# Altium schematic symbol library TI.SchLib: 4 symbols
Pins are listed as number, name and electrical type; pins without a type are passive.

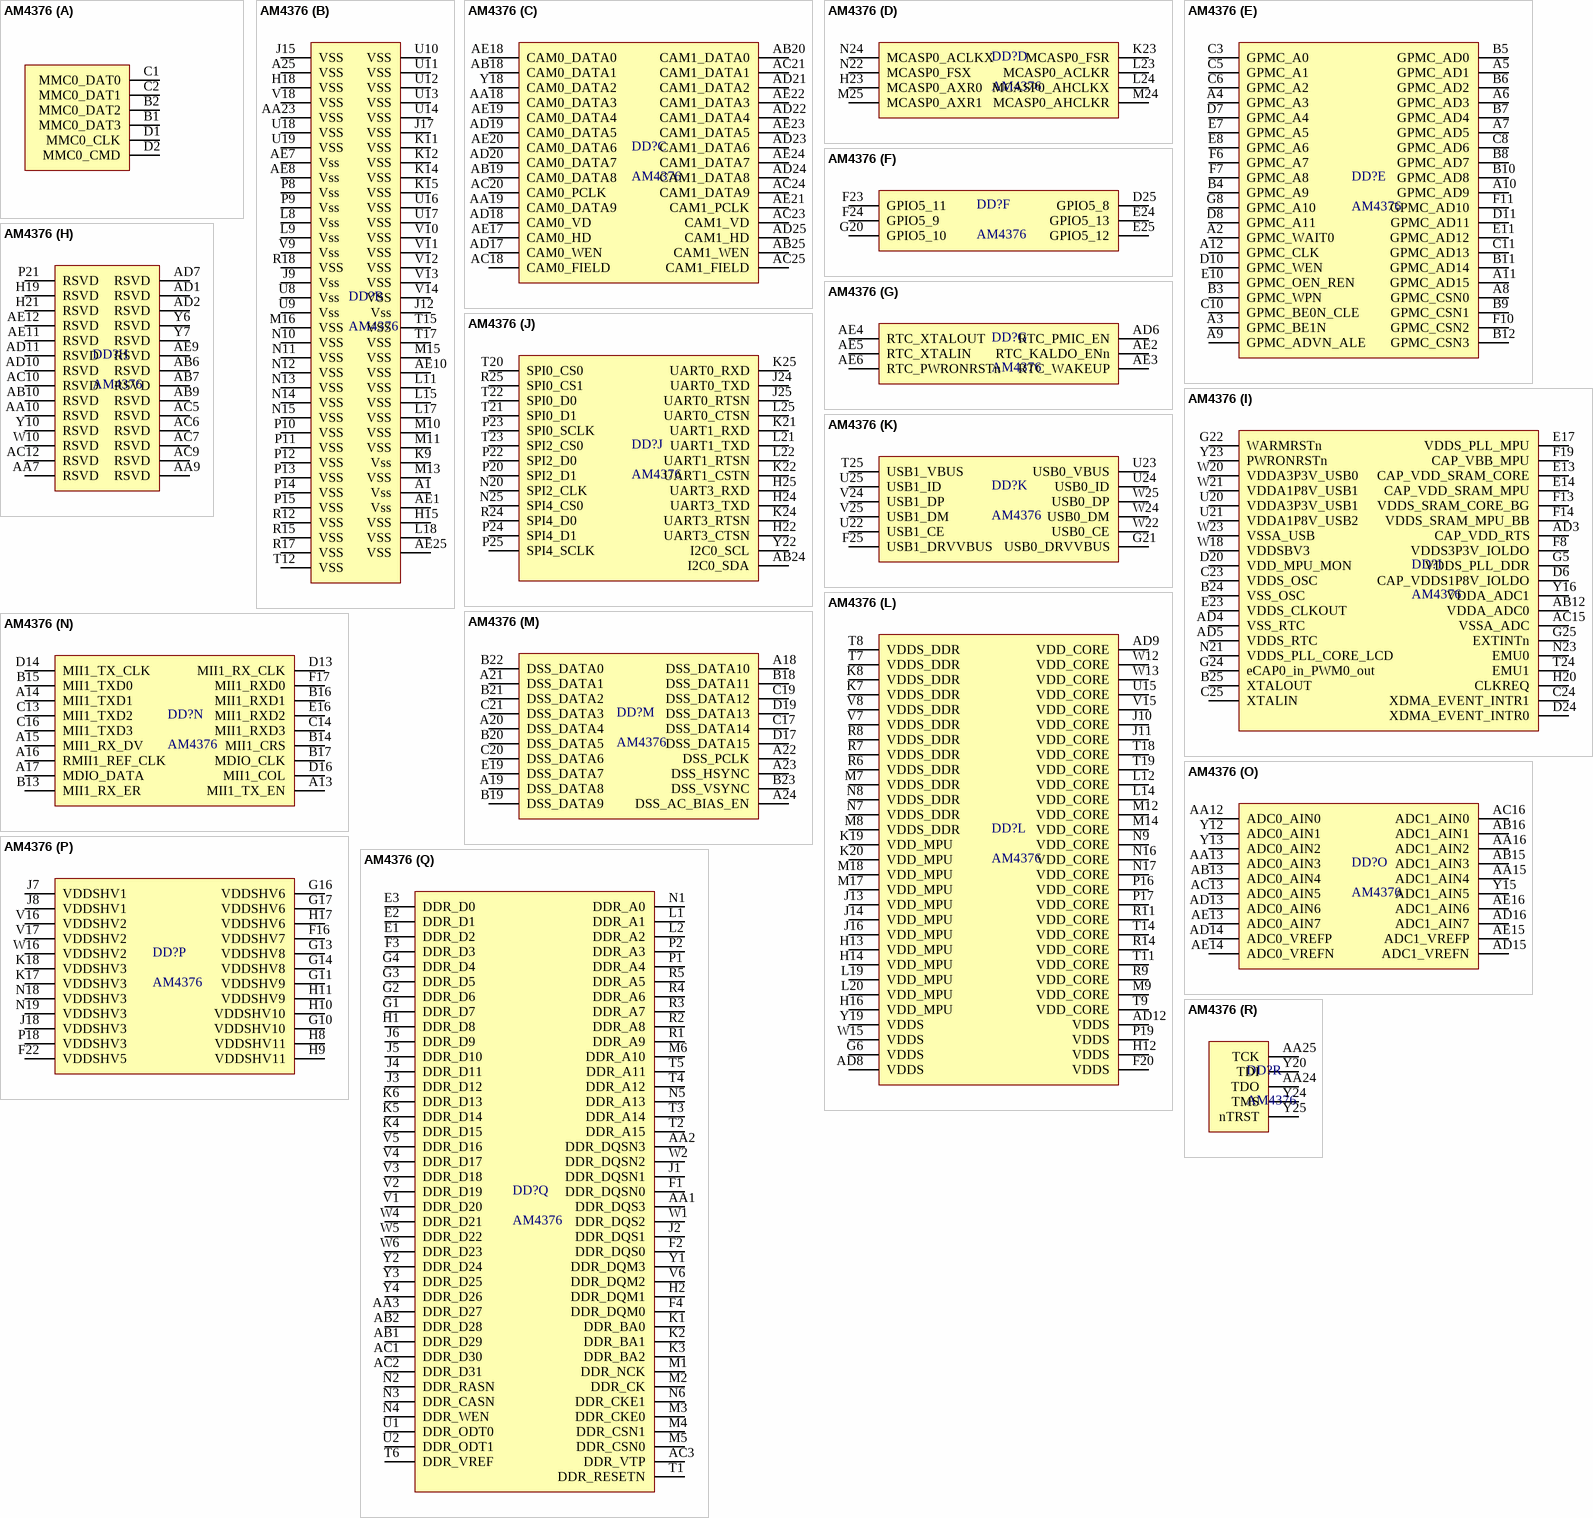
[diagram p0: symbol AM4376]

## AM4376
designator DD?
footprint BGA491
part A pins: B1 MMC0_DAT3 (power), B2 MMC0_DAT2 (power), C1 MMC0_DAT0 (power), C2 MMC0_DAT1 (power), D1 MMC0_CLK (power), D2 MMC0_CMD (power)
part B pins: A1 Vss (power), A25 VSS (power), AA23 VSS (power), AE1 Vss (power), AE7 Vss (power), AE8 Vss (power), AE10 VSS (power), AE25 VSS (power), H15 VSS (power), H18 VSS (power), J9 Vss (power), J12 Vss (power), J15 VSS (power), J17 VSS (power), K9 Vss (power), K11 VSS (power), K12 VSS (power), K14 VSS (power), K15 VSS (power), L8 Vss (power), L9 Vss (power), L11 VSS (power), L15 VSS (power), L17 VSS (power), L18 VSS (power), M10 VSS (power), M11 VSS (power), M13 VSS (power), M15 VSS (power), M16 VSS (power), N10 VSS (power), N11 VSS (power), N12 VSS (power), N13 VSS (power), N14 VSS (power), N15 VSS (power), P8 Vss (power), P9 Vss (power), P10 VSS (power), P11 VSS (power), P12 VSS (power), P13 VSS (power), P14 VSS (power), P15 VSS (power), R12 VSS (power), R15 VSS (power), R17 VSS (power), R18 VSS (power), T12 VSS (power), T15 VSS (power), T17 VSS (power), U8 Vss (power), U9 Vss (power), U10 VSS (power), U11 VSS (power), U12 VSS (power), U13 VSS (power), U14 VSS (power), U16 VSS (power), U17 VSS (power), U18 VSS (power), U19 VSS (power), V9 Vss (power), V10 VSS (power), V11 VSS (power), V12 VSS (power), V13 VSS (power), V14 VSS (power), V18 VSS (power)
part C pins: AA18 CAM0_DATA3 (power), AA19 CAM0_DATA9 (power), AB18 CAM0_DATA1 (power), AB19 CAM0_DATA8 (power), AB20 CAM1_DATA0 (power), AB25 CAM1_WEN (power), AC18 CAM0_FIELD (power), AC20 CAM0_PCLK (power), AC21 CAM1_DATA1 (power), AC23 CAM1_VD (power), AC24 CAM1_DATA9 (power), AC25 CAM1_FIELD (power), AD17 CAM0_WEN (power), AD18 CAM0_VD (power), AD19 CAM0_DATA5 (power), AD20 CAM0_DATA7 (power), AD21 CAM1_DATA2 (power), AD22 CAM1_DATA4 (power), AD23 CAM1_DATA6 (power), AD24 CAM1_DATA8 (power), AD25 CAM1_HD (power), AE17 CAM0_HD (power), AE18 CAM0_DATA0 (power), AE19 CAM0_DATA4 (power), AE20 CAM0_DATA6 (power), AE21 CAM1_PCLK (power), AE22 CAM1_DATA3 (power), AE23 CAM1_DATA5 (power), AE24 CAM1_DATA7 (power), Y18 CAM0_DATA2 (power)
part D pins: H23 MCASP0_AXR0 (power), K23 MCASP0_FSR (power), L23 MCASP0_ACLKR (power), L24 MCASP0_AHCLKX (power), M24 MCASP0_AHCLKR (power), M25 MCASP0_AXR1 (power), N22 MCASP0_FSX (power), N24 MCASP0_ACLKX (power)
part E pins: A2 GPMC_WAIT0 (power), A3 GPMC_BE1N (power), A4 GPMC_A3 (power), A5 GPMC_AD1 (power), A6 GPMC_AD3 (power), A7 GPMC_AD5 (power), A8 GPMC_CSN0 (power), A9 GPMC_ADVN_ALE (power), A10 GPMC_AD9 (power), A11 GPMC_AD15 (power), A12 GPMC_CLK (power), B3 GPMC_WPN (power), B4 GPMC_A9 (power), B5 GPMC_AD0 (power), B6 GPMC_AD2 (power), B7 GPMC_AD4 (power), B8 GPMC_AD7 (power), B9 GPMC_CSN1 (power), B10 GPMC_AD8 (power), B11 GPMC_AD14 (power), B12 GPMC_CSN3 (power), C3 GPMC_A0 (power), C5 GPMC_A1 (power), C6 GPMC_A2 (power), C8 GPMC_AD6 (power), C10 GPMC_BE0N_CLE (power), C11 GPMC_AD13 (power), D7 GPMC_A4 (power), D8 GPMC_A11 (power), D10 GPMC_WEN (power), D11 GPMC_AD11 (power), E7 GPMC_A5 (power), E8 GPMC_A6 (power), E10 GPMC_OEN_REN (power), E11 GPMC_AD12 (power), F6 GPMC_A7 (power), F7 GPMC_A8 (power), F10 GPMC_CSN2 (power), F11 GPMC_AD10 (power), G8 GPMC_A10 (power)
part F pins: D25 GPIO5_8 (power), E24 GPIO5_13 (power), E25 GPIO5_12 (power), F23 GPIO5_11 (power), F24 GPIO5_9 (power), G20 GPIO5_10 (power)
part G pins: AD6 RTC_PMIC_EN (power), AE2 RTC_KALDO_ENn (power), AE3 RTC_WAKEUP (power), AE4 RTC_XTALOUT (power), AE5 RTC_XTALIN (power), AE6 RTC_PWRONRSTn (power)
part H pins: AA7 RSVD (power), AA9 RSVD (power), AA10 RSVD (power), AB6 RSVD (power), AB7 RSVD (power), AB9 RSVD (power), AB10 RSVD (power), AC5 RSVD (power), AC6 RSVD (power), AC7 RSVD (power), AC9 RSVD (power), AC10 RSVD (power), AC12 RSVD (power), AD1 RSVD (power), AD2 RSVD (power), AD7 RSVD (power), AD10 RSVD (power), AD11 RSVD (power), AE9 RSVD (power), AE11 RSVD (power), AE12 RSVD (power), H19 RSVD (power), H21 RSVD (power), P21 RSVD (power), W10 RSVD (power), Y6 RSVD (power), Y7 RSVD (power), Y10 RSVD (power)
part I pins: AB12 VDDA_ADC0 (power), AC15 VSSA_ADC (power), AD3 CAP_VDD_RTS (power), AD4 VSS_RTC (power), AD5 VDDS_RTC (power), B24 VSS_OSC (power), B25 XTALOUT (power), C23 VDDS_OSC (power), C24 XDMA_EVENT_INTR1 (power), C25 XTALIN (power), D6 CAP_VDDS1P8V_IOLDO (power), D20 VDD_MPU_MON (power), D24 XDMA_EVENT_INTR0 (power), E13 CAP_VDD_SRAM_CORE (power), E14 CAP_VDD_SRAM_MPU (power), E17 VDDS_PLL_MPU (power), E23 VDDS_CLKOUT (power), F8 VDDS3P3V_IOLDO (power), F13 VDDS_SRAM_CORE_BG (power), F14 VDDS_SRAM_MPU_BB (power), F19 CAP_VBB_MPU (power), G5 VDDS_PLL_DDR (power), G22 WARMRSTn (power), G24 eCAP0_in_PWM0_out (power), G25 EXTINTn (power), H20 CLKREQ (power), N21 VDDS_PLL_CORE_LCD (power), N23 EMU0 (power), T24 EMU1 (power), U20 VDDA3P3V_USB1 (power), U21 VDDA1P8V_USB2 (power), W18 VDDSBV3 (power), W20 VDDA3P3V_USB0 (power), W21 VDDA1P8V_USB1 (power), W23 VSSA_USB (power), Y16 VDDA_ADC1 (power), Y23 PWRONRSTn (power)
part J pins: AB24 I2C0_SDA (power), H22 UART3_CTSN (power), H24 UART3_TXD (power), H25 UART3_RXD (power), J24 UART0_TXD (power), J25 UART0_RTSN (power), K21 UART1_RXD (power), K22 UART1_CSTN (power), K24 UART3_RTSN (power), K25 UART0_RXD (power), L21 UART1_TXD (power), L22 UART1_RTSN (power), L25 UART0_CTSN (power), N20 SPI2_CLK (power), N25 SPI4_CS0 (power), P20 SPI2_D1 (power), P22 SPI2_D0 (power), P23 SPI0_SCLK (power), P24 SPI4_D1 (power), P25 SPI4_SCLK (power), R24 SPI4_D0 (power), R25 SPI0_CS1 (power), T20 SPI0_CS0 (power), T21 SPI0_D1 (power), T22 SPI0_D0 (power), T23 SPI2_CS0 (power), Y22 I2C0_SCL (power)
part K pins: F25 USB1_DRVVBUS (power), G21 USB0_DRVVBUS (power), T25 USB1_VBUS (power), U22 USB1_CE (power), U23 USB0_VBUS (power), U24 USB0_ID (power), U25 USB1_ID (power), V24 USB1_DP (power), V25 USB1_DM (power), W22 USB0_CE (power), W24 USB0_DM (power), W25 USB0_DP (power)
part L pins: AD8 VDDS (power), AD9 VDD_CORE (power), AD12 VDDS (power), F20 VDDS (power), G6 VDDS (power), H12 VDDS (power), H13 VDD_MPU (power), H14 VDD_MPU (power), H16 VDD_MPU (power), J10 VDD_CORE (power), J11 VDD_CORE (power), J13 VDD_MPU (power), J14 VDD_MPU (power), J16 VDD_MPU (power), K7 VDDS_DDR (power), K8 VDDS_DDR (power), K19 VDD_MPU (power), K20 VDD_MPU (power), L12 VDD_CORE (power), L14 VDD_CORE (power), L19 VDD_MPU (power), L20 VDD_MPU (power), M7 VDDS_DDR (power), M8 VDDS_DDR (power), M9 VDD_CORE (power), M12 VDD_CORE (power), M14 VDD_CORE (power), M17 VDD_MPU (power), M18 VDD_MPU (power), N7 VDDS_DDR (power), N8 VDDS_DDR (power), N9 VDD_CORE (power), N16 VDD_CORE (power), N17 VDD_CORE (power), P16 VDD_CORE (power), P17 VDD_CORE (power), P19 VDDS (power), R6 VDDS_DDR (power), R7 VDDS_DDR (power), R8 VDDS_DDR (power), R9 VDD_CORE (power), R11 VDD_CORE (power), R14 VDD_CORE (power), T7 VDDS_DDR (power), T8 VDDS_DDR (power), T9 VDD_CORE (power), T11 VDD_CORE (power), T14 VDD_CORE (power), T18 VDD_CORE (power), T19 VDD_CORE (power), U15 VDD_CORE (power), V7 VDDS_DDR (power), V8 VDDS_DDR (power), V15 VDD_CORE (power), W12 VDD_CORE (power), W13 VDD_CORE (power), W15 VDDS (power), Y19 VDDS (power)
part M pins: A18 DSS_DATA10 (power), A19 DSS_DATA8 (power), A20 DSS_DATA4 (power), A21 DSS_DATA1 (power), A22 DSS_PCLK (power), A23 DSS_HSYNC (power), A24 DSS_AC_BIAS_EN (power), B18 DSS_DATA11 (power), B19 DSS_DATA9 (power), B20 DSS_DATA5 (power), B21 DSS_DATA2 (power), B22 DSS_DATA0 (power), B23 DSS_VSYNC (power), C17 DSS_DATA14 (power), C19 DSS_DATA12 (power), C20 DSS_DATA6 (power), C21 DSS_DATA3 (power), D17 DSS_DATA15 (power), D19 DSS_DATA13 (power), E19 DSS_DATA7 (power)
part N pins: A13 MII1_TX_EN (power), A14 MII1_TXD1 (power), A15 MII1_RX_DV (power), A16 RMII1_REF_CLK (power), A17 MDIO_DATA (power), B13 MII1_RX_ER (power), B14 MII1_CRS (power), B15 MII1_TXD0 (power), B16 MII1_RXD1 (power), B17 MDIO_CLK (power), C13 MII1_TXD2 (power), C14 MII1_RXD3 (power), C16 MII1_TXD3 (power), D13 MII1_RX_CLK (power), D14 MII1_TX_CLK (power), D16 MII1_COL (power), E16 MII1_RXD2 (power), F17 MII1_RXD0 (power)
part O pins: AA12 ADC0_AIN0 (power), AA13 ADC0_AIN3 (power), AA15 ADC1_AIN4 (power), AA16 ADC1_AIN2 (power), AB13 ADC0_AIN4 (power), AB15 ADC1_AIN3 (power), AB16 ADC1_AIN1 (power), AC13 ADC0_AIN5 (power), AC16 ADC1_AIN0 (power), AD13 ADC0_AIN6 (power), AD14 ADC0_VREFP (power), AD15 ADC1_VREFN (power), AD16 ADC1_AIN7 (power), AE13 ADC0_AIN7 (power), AE14 ADC0_VREFN (power), AE15 ADC1_VREFP (power), AE16 ADC1_AIN6 (power), Y12 ADC0_AIN1 (power), Y13 ADC0_AIN2 (power), Y15 ADC1_AIN5 (power)
part P pins: F16 VDDSHV7 (power), F22 VDDSHV5 (power), G10 VDDSHV10 (power), G11 VDDSHV9 (power), G13 VDDSHV8 (power), G14 VDDSHV8 (power), G16 VDDSHV6 (power), G17 VDDSHV6 (power), H8 VDDSHV11 (power), H9 VDDSHV11 (power), H10 VDDSHV10 (power), H11 VDDSHV9 (power), H17 VDDSHV6 (power), J7 VDDSHV1 (power), J8 VDDSHV1 (power), J18 VDDSHV3 (power), K17 VDDSHV3 (power), K18 VDDSHV3 (power), N18 VDDSHV3 (power), N19 VDDSHV3 (power), P18 VDDSHV3 (power), V16 VDDSHV2 (power), V17 VDDSHV2 (power), W16 VDDSHV2 (power)
part Q pins: AA1 DDR_DQS3 (power), AA2 DDR_DQSN3 (power), AA3 DDR_D27 (power), AB1 DDR_D29 (power), AB2 DDR_D28 (power), AC1 DDR_D30 (power), AC2 DDR_D31 (power), AC3 DDR_VTP (power), E1 DDR_D2 (power), E2 DDR_D1 (power), E3 DDR_D0 (power), F1 DDR_DQSN0 (power), F2 DDR_DQS0 (power), F3 DDR_D3 (power), F4 DDR_DQM0 (power), G1 DDR_D7 (power), G2 DDR_D6 (power), G3 DDR_D5 (power), G4 DDR_D4 (power), H1 DDR_D8 (power), H2 DDR_DQM1 (power), J1 DDR_DQSN1 (power), J2 DDR_DQS1 (power), J3 DDR_D12 (power), J4 DDR_D11 (power), J5 DDR_D10 (power), J6 DDR_D9 (power), K1 DDR_BA0 (power), K2 DDR_BA1 (power), K3 DDR_BA2 (power), K4 DDR_D15 (power), K5 DDR_D14 (power), K6 DDR_D13 (power), L1 DDR_A1 (power), L2 DDR_A2 (power), M1 DDR_NCK (power), M2 DDR_CK (power), M3 DDR_CKE0 (power), M4 DDR_CSN1 (power), M5 DDR_CSN0 (power), M6 DDR_A10 (power), N1 DDR_A0 (power), N2 DDR_RASN (power), N3 DDR_CASN (power), N4 DDR_WEN (power), N5 DDR_A13 (power), N6 DDR_CKE1 (power), P1 DDR_A4 (power), P2 DDR_A3 (power), R1 DDR_A9 (power), R2 DDR_A8 (power), R3 DDR_A7 (power), R4 DDR_A6 (power), R5 DDR_A5 (power), T1 DDR_RESETN (power), T2 DDR_A15 (power), T3 DDR_A14 (power), T4 DDR_A12 (power), T5 DDR_A11 (power), T6 DDR_VREF (power), U1 DDR_ODT0 (power), U2 DDR_ODT1 (power), V1 DDR_D20 (power), V2 DDR_D19 (power), V3 DDR_D18 (power), V4 DDR_D17 (power), V5 DDR_D16 (power), V6 DDR_DQM2 (power), W1 DDR_DQS2 (power), W2 DDR_DQSN2 (power), W4 DDR_D21 (power), W5 DDR_D22 (power), W6 DDR_D23 (power), Y1 DDR_DQM3 (power), Y2 DDR_D24 (power), Y3 DDR_D25 (power), Y4 DDR_D26 (power)
part R pins: AA24 TDO (power), AA25 TCK (power), Y20 TDI (power), Y24 TMS (power), Y25 nTRST (power)

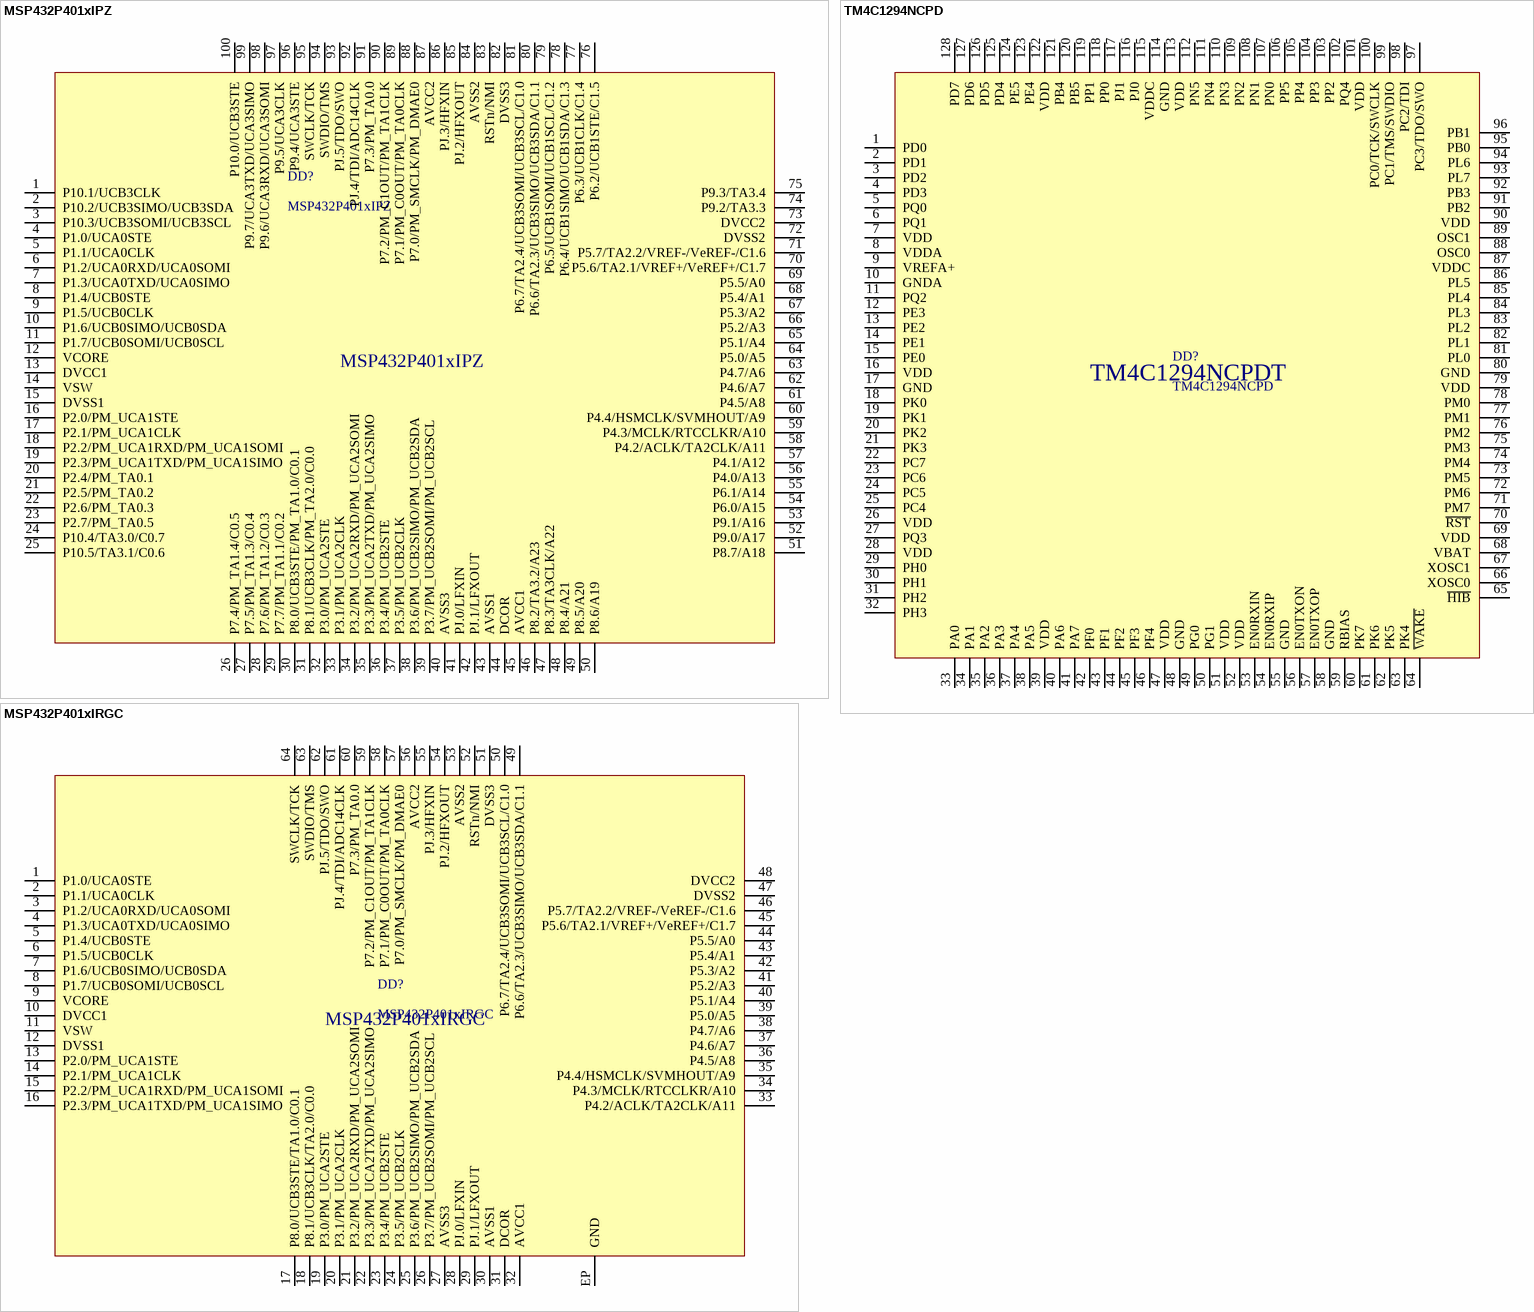
[diagram p1: symbols MSP432P401xIPZ to TM4C1294NCPD]

## MSP432P401xIPZ
designator DD?
TI Cortex-M4F MCU MSP432 family LQFP-100
footprint LQFP-100
pins: 1 P10.1/UCB3CLK, 2 P10.2/UCB3SIMO/UCB3SDA, 3 P10.3/UCB3SOMI/UCB3SCL, 4 P1.0/UCA0STE, 5 P1.1/UCA0CLK, 6 P1.2/UCA0RXD/UCA0SOMI, 7 P1.3/UCA0TXD/UCA0SIMO, 8 P1.4/UCB0STE, 9 P1.5/UCB0CLK, 10 P1.6/UCB0SIMO/UCB0SDA, 11 P1.7/UCB0SOMI/UCB0SCL, 12 VCORE, 13 DVCC1, 14 VSW, 15 DVSS1, 16 P2.0/PM_UCA1STE, 17 P2.1/PM_UCA1CLK, 18 P2.2/PM_UCA1RXD/PM_UCA1SOMI, 19 P2.3/PM_UCA1TXD/PM_UCA1SIMO, 20 P2.4/PM_TA0.1, 21 P2.5/PM_TA0.2, 22 P2.6/PM_TA0.3, 23 P2.7/PM_TA0.5, 24 P10.4/TA3.0/C0.7, 25 P10.5/TA3.1/C0.6, 26 P7.4/PM_TA1.4/C0.5, 27 P7.5/PM_TA1.3/C0.4, 28 P7.6/PM_TA1.2/C0.3, 29 P7.7/PM_TA1.1/C0.2, 30 P8.0/UCB3STE/PM_TA1.0/C0.1, 31 P8.1/UCB3CLK/PM_TA2.0/C0.0, 32 P3.0/PM_UCA2STE, 33 P3.1/PM_UCA2CLK, 34 P3.2/PM_UCA2RXD/PM_UCA2SOMI, 35 P3.3/PM_UCA2TXD/PM_UCA2SIMO, 36 P3.4/PM_UCB2STE, 37 P3.5/PM_UCB2CLK, 38 P3.6/PM_UCB2SIMO/PM_UCB2SDA, 39 P3.7/PM_UCB2SOMI/PM_UCB2SCL, 40 AVSS3, 41 PJ.0/LFXIN, 42 PJ.1/LFXOUT, 43 AVSS1, 44 DCOR, 45 AVCC1, 46 P8.2/TA3.2/A23, 47 P8.3/TA3CLK/A22, 48 P8.4/A21, 49 P8.5/A20, 50 P8.6/A19, 51 P8.7/A18, 52 P9.0/A17, 53 P9.1/A16, 54 P6.0/A15, 55 P6.1/A14, 56 P4.0/A13, 57 P4.1/A12, 58 P4.2/ACLK/TA2CLK/A11, 59 P4.3/MCLK/RTCCLKR/A10, 60 P4.4/HSMCLK/SVMHOUT/A9, 61 P4.5/A8, 62 P4.6/A7, 63 P4.7/A6, 64 P5.0/A5, 65 P5.1/A4, 66 P5.2/A3, 67 P5.3/A2, 68 P5.4/A1, 69 P5.5/A0, 70 P5.6/TA2.1/VREF+/VeREF+/C1.7, 71 P5.7/TA2.2/VREF-/VeREF-/C1.6, 72 DVSS2, 73 DVCC2, 74 P9.2/TA3.3, 75 P9.3/TA3.4, 76 P6.2/UCB1STE/C1.5, 77 P6.3/UCB1CLK/C1.4, 78 P6.4/UCB1SIMO/UCB1SDA/C1.3, 79 P6.5/UCB1SOMI/UCB1SCL/C1.2, 80 P6.6/TA2.3/UCB3SIMO/UCB3SDA/C1.1, 81 P6.7/TA2.4/UCB3SOMI/UCB3SCL/C1.0, 82 DVSS3, 83 RSTn/NMI, 84 AVSS2, 85 PJ.2/HFXOUT, 86 PJ.3/HFXIN, 87 AVCC2, 88 P7.0/PM_SMCLK/PM_DMAE0, 89 P7.1/PM_C0OUT/PM_TA0CLK, 90 P7.2/PM_C1OUT/PM_TA1CLK, 91 P7.3/PM_TA0.0, 92 PJ.4/TDI/ADC14CLK, 93 PJ.5/TDO/SWO, 94 SWDIO/TMS, 95 SWCLK/TCK, 96 P9.4/UCA3STE, 97 P9.5/UCA3CLK, 98 P9.6/UCA3RXD/UCA3SOMI, 99 P9.7/UCA3TXD/UCA3SIMO, 100 P10.0/UCB3STE

## MSP432P401xIRGC
designator DD?
TI Cortex-M4F MCU MSP432 family VQFN-64
footprint VQFN-64
pins: 1 P1.0/UCA0STE, 2 P1.1/UCA0CLK, 3 P1.2/UCA0RXD/UCA0SOMI, 4 P1.3/UCA0TXD/UCA0SIMO, 5 P1.4/UCB0STE, 6 P1.5/UCB0CLK, 7 P1.6/UCB0SIMO/UCB0SDA, 8 P1.7/UCB0SOMI/UCB0SCL, 9 VCORE, 10 DVCC1, 11 VSW, 12 DVSS1, 13 P2.0/PM_UCA1STE, 14 P2.1/PM_UCA1CLK, 15 P2.2/PM_UCA1RXD/PM_UCA1SOMI, 16 P2.3/PM_UCA1TXD/PM_UCA1SIMO, 17 P8.0/UCB3STE/TA1.0/C0.1, 18 P8.1/UCB3CLK/TA2.0/C0.0, 19 P3.0/PM_UCA2STE, 20 P3.1/PM_UCA2CLK, 21 P3.2/PM_UCA2RXD/PM_UCA2SOMI, 22 P3.3/PM_UCA2TXD/PM_UCA2SIMO, 23 P3.4/PM_UCB2STE, 24 P3.5/PM_UCB2CLK, 25 P3.6/PM_UCB2SIMO/PM_UCB2SDA, 26 P3.7/PM_UCB2SOMI/PM_UCB2SCL, 27 AVSS3, 28 PJ.0/LFXIN, 29 PJ.1/LFXOUT, 30 AVSS1, 31 DCOR, 32 AVCC1, 33 P4.2/ACLK/TA2CLK/A11, 34 P4.3/MCLK/RTCCLKR/A10, 35 P4.4/HSMCLK/SVMHOUT/A9, 36 P4.5/A8, 37 P4.6/A7, 38 P4.7/A6, 39 P5.0/A5, 40 P5.1/A4, 41 P5.2/A3, 42 P5.3/A2, 43 P5.4/A1, 44 P5.5/A0, 45 P5.6/TA2.1/VREF+/VeREF+/C1.7, 46 P5.7/TA2.2/VREF-/VeREF-/C1.6, 47 DVSS2, 48 DVCC2, 49 P6.6/TA2.3/UCB3SIMO/UCB3SDA/C1.1, 50 P6.7/TA2.4/UCB3SOMI/UCB3SCL/C1.0, 51 DVSS3, 52 RSTn/NMI, 53 AVSS2, 54 PJ.2/HFXOUT, 55 PJ.3/HFXIN, 56 AVCC2, 57 P7.0/PM_SMCLK/PM_DMAE0, 58 P7.1/PM_C0OUT/PM_TA0CLK, 59 P7.2/PM_C1OUT/PM_TA1CLK, 60 P7.3/PM_TA0.0, 61 PJ.4/TDI/ADC14CLK, 62 PJ.5/TDO/SWO, 63 SWDIO/TMS, 64 SWCLK/TCK, EP GND

## TM4C1294NCPD
designator DD?
TI Cortex-M4F MCU Tiva-C
footprint TQFP-128
pins: 1 PD0, 2 PD1, 3 PD2, 4 PD3, 5 PQ0, 6 PQ1, 7 VDD, 8 VDDA, 9 VREFA+, 10 GNDA, 11 PQ2, 12 PE3, 13 PE2, 14 PE1, 15 PE0, 16 VDD, 17 GND, 18 PK0, 19 PK1, 20 PK2, 21 PK3, 22 PC7, 23 PC6, 24 PC5, 25 PC4, 26 VDD, 27 PQ3, 28 VDD, 29 PH0, 30 PH1, 31 PH2, 32 PH3, 33 PA0, 34 PA1, 35 PA2, 36 PA3, 37 PA4, 38 PA5, 39 VDD, 40 PA6, 41 PA7, 42 PF0, 43 PF1, 44 PF2, 45 PF3, 46 PF4, 47 VDD, 48 GND, 49 PG0, 50 PG1, 51 VDD, 52 VDD, 53 EN0RXIN, 54 EN0RXIP, 55 GND, 56 EN0TXON, 57 EN0TXOP, 58 GND, 59 RBIAS, 60 PK7, 61 PK6, 62 PK5, 63 PK4, 64 ~{WAKE}, 65 ~{HIB}, 66 XOSC0, 67 XOSC1, 68 VBAT, 69 VDD, 70 ~{RST}, 71 PM7, 72 PM6, 73 PM5, 74 PM4, 75 PM3, 76 PM2, 77 PM1, 78 PM0, 79 VDD, 80 GND, 81 PL0, 82 PL1, 83 PL2, 84 PL3, 85 PL4, 86 PL5, 87 VDDC, 88 OSC0, 89 OSC1, 90 VDD, 91 PB2, 92 PB3, 93 PL7, 94 PL6, 95 PB0, 96 PB1, 97 PC3/TDO/SWO, 98 PC2/TDI, 99 PC1/TMS/SWDIO, 100 PC0/TCK/SWCLK, 101 VDD, 102 PQ4, 103 PP2, 104 PP3, 105 PP4, 106 PP5, 107 PN0, 108 PN1, 109 PN2, 110 PN3, 111 PN4, 112 PN5, 113 VDD, 114 GND, 115 VDDC, 116 PJ0, 117 PJ1, 118 PP0, 119 PP1, 120 PB5, 121 PB4, 122 VDD, 123 PE4, 124 PE5, 125 PD4, 126 PD5, 127 PD6, 128 PD7
text: TM4C1294NCPDT